# Altium footprint library B1100-13-F.PcbLib: 1 footprints
Each footprint in its own frame and in the unit in brackets; x right, y up, seen from the top. Pads: shape width x height; smd on the part's side, far side on the other; paste and mask are expansions set on the pad; w line width, h text height; cw(c..) or ccw(c..) is an arc to the next point about the centre after c.
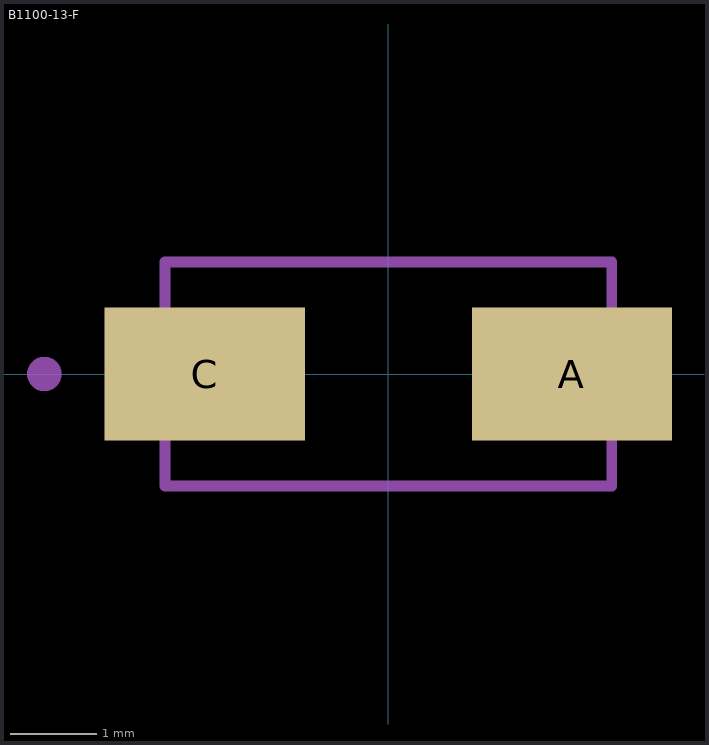
[diagram p0: the footprint, top view; thin cyan lines are the x and y axes]

## B1100-13-F [mm]
pads (2):
  rect 2.33x1.55 smd: A(2.135,0) C(-2.135,0)
Mechanical 1:
  circle w0.2: c-4,0 r0.1
  lines w0.127: -2.598,-1.302 2.598,-1.302 2.598,1.302 -2.598,1.302 -2.598,-1.302
3D body "B1100-13-F.STEP": height 2.41, standoff 0, extent -2.598,-1.302 2.598,1.302